# Altium schematic symbol library TS3USB221E.SchLib: 1 symbol
Pins are listed as number, name and electrical type; pins without a type are passive.

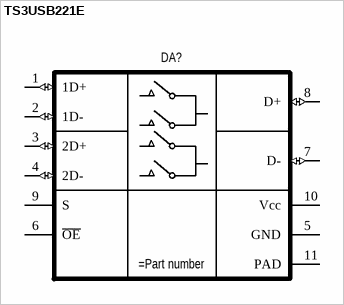
[diagram p0: symbol TS3USB221E]

## TS3USB221E
designator DA?
High-Speed USB 2.0 (480-Mbps) 1:2 Multiplexer – Demultiplexer Switch With Single Enable
pins: 1 1D+ (io), 2 1D- (io), 3 2D+ (io), 4 2D- (io), 5 GND (power), 6 ~{OE} (power), 7 D- (io), 8 D+ (io), 9 S (power), 10 Vcc (power), 11 PAD (power)